# Altium footprint library AMEOF3-5SJZ.PcbLib: 1 footprints
Each footprint in its own frame and in the unit in brackets; x right, y up, seen from the top. Pads: shape width x height; smd on the part's side, far side on the other; paste and mask are expansions set on the pad; w line width, h text height; cw(c..) or ccw(c..) is an arc to the next point about the centre after c.
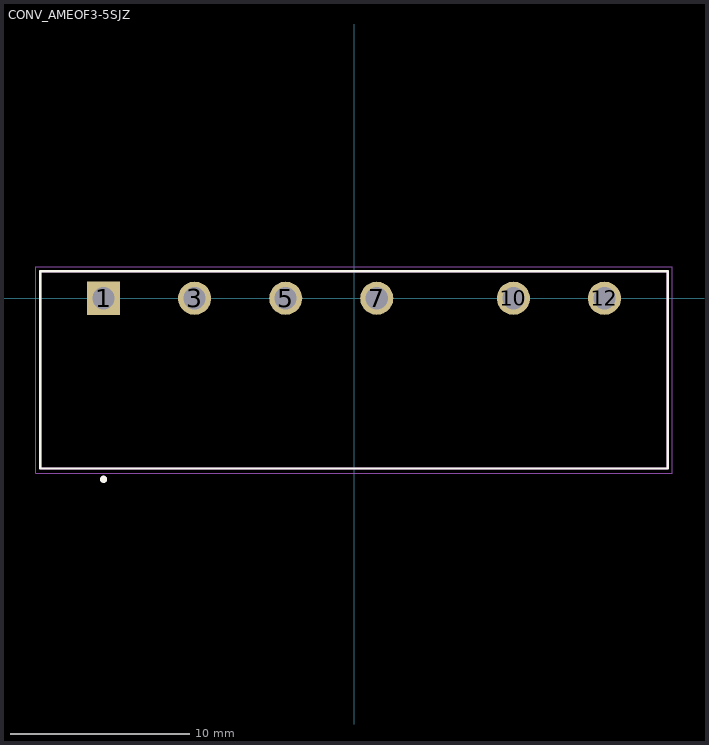
[diagram p0: the footprint, top view; thin cyan lines are the x and y axes]

## CONV_AMEOF3-5SJZ [mm]
pads (6):
  rect 1.85x1.85 hole 1.23: 1(-13.97,0)
  round 1.85 hole 1.23: 3(-8.89,0) 5(-3.81,0) 7(1.27,0) 10(8.89,0) 12(13.97,0)
Top Overlay:
  circle w0.2: c-13.97,-10.1 r0.1
  lines w0.127: -17.5,-9.5 17.5,-9.5 17.5,1.5 -17.5,1.5 -17.5,-9.5
Mechanical 13:
  circle w0.2: c-13.97,-10.1 r0.1
  lines w0.127: -17.5,-9.5 17.5,-9.5 17.5,1.5 -17.5,1.5 -17.5,-9.5
Mechanical 15:
  lines w0.05: -17.75,-9.75 17.75,-9.75 17.75,1.75 -17.75,1.75 -17.75,-9.75